# Altium footprint library Connector.PcbLib: 2 footprints
Each footprint in its own frame and in the unit in brackets; x right, y up, seen from the top. Pads: shape width x height; smd on the part's side, far side on the other; paste and mask are expansions set on the pad; w line width, h text height; cw(c..) or ccw(c..) is an arc to the next point about the centre after c.
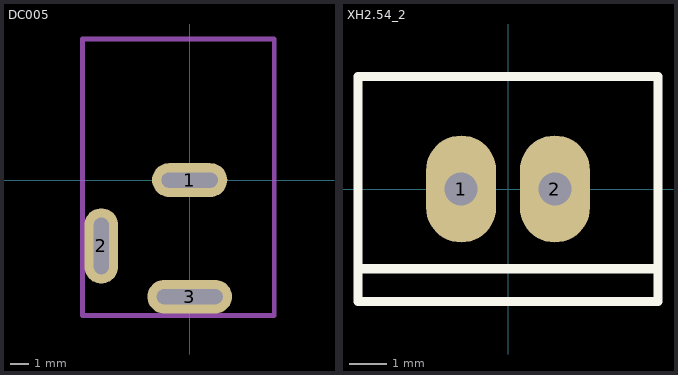
[diagram p0: the footprints below, top view; thin cyan lines are the x and y axes]

## DC005 [mm]
pads (3):
  oval 4x1.8 hole 0.8 slot 3 at 0 deg: 1(0,0)
  oval 1.8x4 hole 0.8 slot 3 at 90 deg: 2(-4.7,-3.5)
  oval 4.5x1.8 hole 0.8 slot 3.5 at 0 deg: 3(0,-6.2)
Mechanical 14:
  lines w0.254: 4.5,-7.2 -5.7,-7.2 -5.7,7.5 4.5,7.5 4.5,-7.128
3D body "User Library-A3D-014-00008.step": height 11, standoff -4, extent -4.65,-6.85 4.5,7.5

## XH2.54_2 [mm]
pads (2):
  oval 1.9x2.9 hole 0.9: 1(-1.27,0) 2(1.27,0)
Top Overlay:
  lines w0.254: -4.064,-2.159 4.064,-2.159 ; -4.064,-3.048 -4.064,3.048 4.064,3.048 4.064,-3.048 -4.064,-3.048
3D body "User Library-XH2_54_2PIN.step": height 7, standoff -4, extent -4,-3 4,3